# Altium schematic symbol library CL21A475KOCLRNC.SchLib: 1 symbol
Pins are listed as number, name and electrical type; pins without a type are passive.

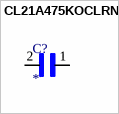
[diagram p0: symbol CL21A475KOCLRNC]

## CL21A475KOCLRNC
designator C?
0805 X5R 4.7UF 10% 16V; MF: {'manufacturer': u'Samsung'}; MP: CL21A475KOCLRNC; Value: *; Availability: Unavailable; Price: None; Package: None
footprint CAPC2012X140N
pins: 1, 2